# EAGLE library part RN4020 (library greg)
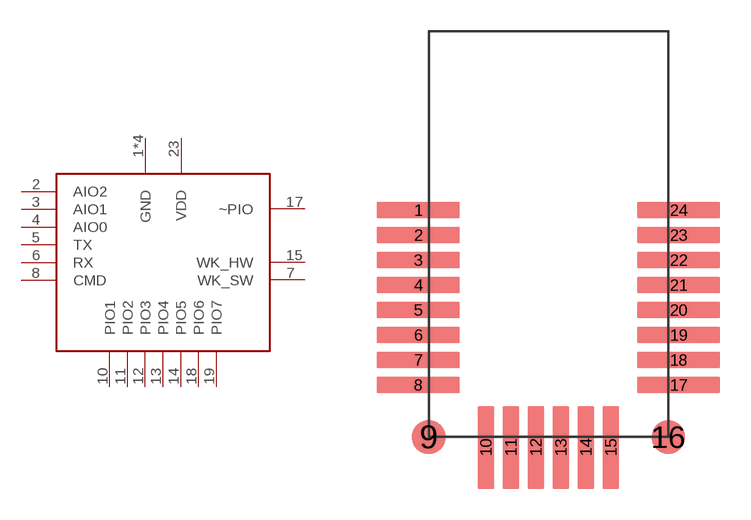
[diagram p14: symbol with the pads of RN4020-LONG; footprint RN4020-LONG]

Designator prefix -

## RN4020LONG  [RN4020-LONG]
1  GND
2  AIO2
3  AIO1
4  AIO0
5  TX
6  RX
7  WK_SW
8  CMD
9  GND
10  PIO1
11  PIO2
12  PIO3
13  PIO4
14  PIO5
15  WK_HW
16  GND
17  ~PIO
18  PIO6
19  PIO7
23  VDD
24  GND

## Footprint RN4020-LONG (pad centres in mm)
smd 4 x 0.8: 1 -6.25,1.15; 2 -6.25,-0.05; 3 -6.25,-1.25; 4 -6.25,-2.45; 5 -6.25,-3.65; 6 -6.25,-4.85; 7 -6.25,-6.05; 8 -6.25,-7.25; 17 6.25,-7.25; 18 6.25,-6.05; 19 6.25,-4.85; 20 6.25,-3.65; 21 6.25,-2.45; 22 6.25,-1.25; 23 6.25,-0.05; 24 6.25,1.15
smd 1.6 x 1.6: 9 -5.75,-9.75; 16 5.75,-9.75
smd 0.8 x 4: 10 -3,-10.25; 11 -1.8,-10.25; 12 -0.6,-10.25; 13 0.6,-10.25; 14 1.8,-10.25; 15 3,-10.25